# EAGLE library part CAM-MODULE-OV7670MFSL (library stutz-components-library)
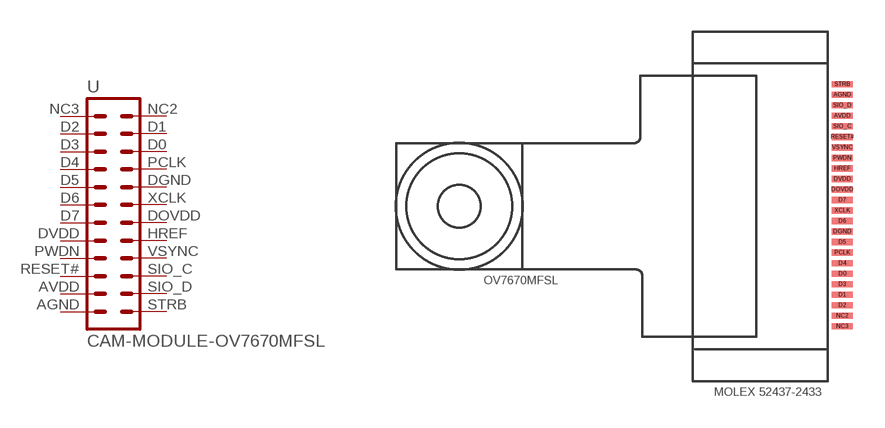
[diagram p19: symbol with the pads of CAM-MODULE-OV7670MFSL; footprint CAM-MODULE-OV7670MFSL]

Designator prefix -

## CAM-MODULE-OV7670MFSL  [CAM-MODULE-OV7670MFSL]
AGND  2  pas
AVDD  4  pas
D0  19  pas
D1  21  pas
D2  22  pas
D3  20  pas
D4  18  pas
D5  16  pas
D6  14  pas
D7  12  pas
DGND  15  pas
DOVDD  11  pas
DVDD  10  pas
HREF  9  pas
NC2  23  pas
NC3  24  pas
PCLK  17  pas
PWDN  8  pas
RESET#  6  pas
SIO_C  5  pas
SIO_D  3  pas
STRB  1  pas
VSYNC  7  pas
XCLK  13  pas

## Footprint CAM-MODULE-OV7670MFSL (pad centres in mm)
smd 1 x 0.3: AGND 18.2,5.3; AVDD 18.2,4.3; D0 18.2,-3.2; D1 18.2,-4.2; D2 18.2,-4.7; D3 18.2,-3.7; D4 18.2,-2.7; D5 18.2,-1.7; D6 18.2,-0.7; D7 18.2,0.3; DGND 18.2,-1.2; DOVDD 18.2,0.8; DVDD 18.2,1.3; HREF 18.2,1.8; NC2 18.2,-5.2; NC3 18.2,-5.7; PCLK 18.2,-2.2; PWDN 18.2,2.3; RESET# 18.2,3.3; SIO_C 18.2,3.8; SIO_D 18.2,4.8; STRB 18.2,5.8; VSYNC 18.2,2.8; XCLK 18.2,-0.2